# Altium integrated library Diode_Rectifier_Schottky.IntLib: 1 symbol
Pins are listed as number, name and electrical type; pins without a type are passive.

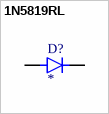
[diagram p0: symbol 1N5819RL]

## 1N5819RL
designator D?
Diode Schottky 40 V 1A Through Hole Axial; MP: 1N5819RL; MF: ON Semiconductor; Value: *; Check_prices: https://www.snapeda.com/parts/1N5819RL/Onsemi/view-part/?ref=eda; Package: DO-41-2 ON Semiconductor; Price: None; Availability: In Stock; SnapEDA_Link: https://www.snapeda.com/parts/1N5819RL/Onsemi/view-part/?ref=snap
footprint DIOAD1036W78L470D235
pins: A, C K